# Altium schematic symbol library Relay_SolidState.SchLib: 93 symbols
Pins are listed as number, name and electrical type; pins without a type are passive.

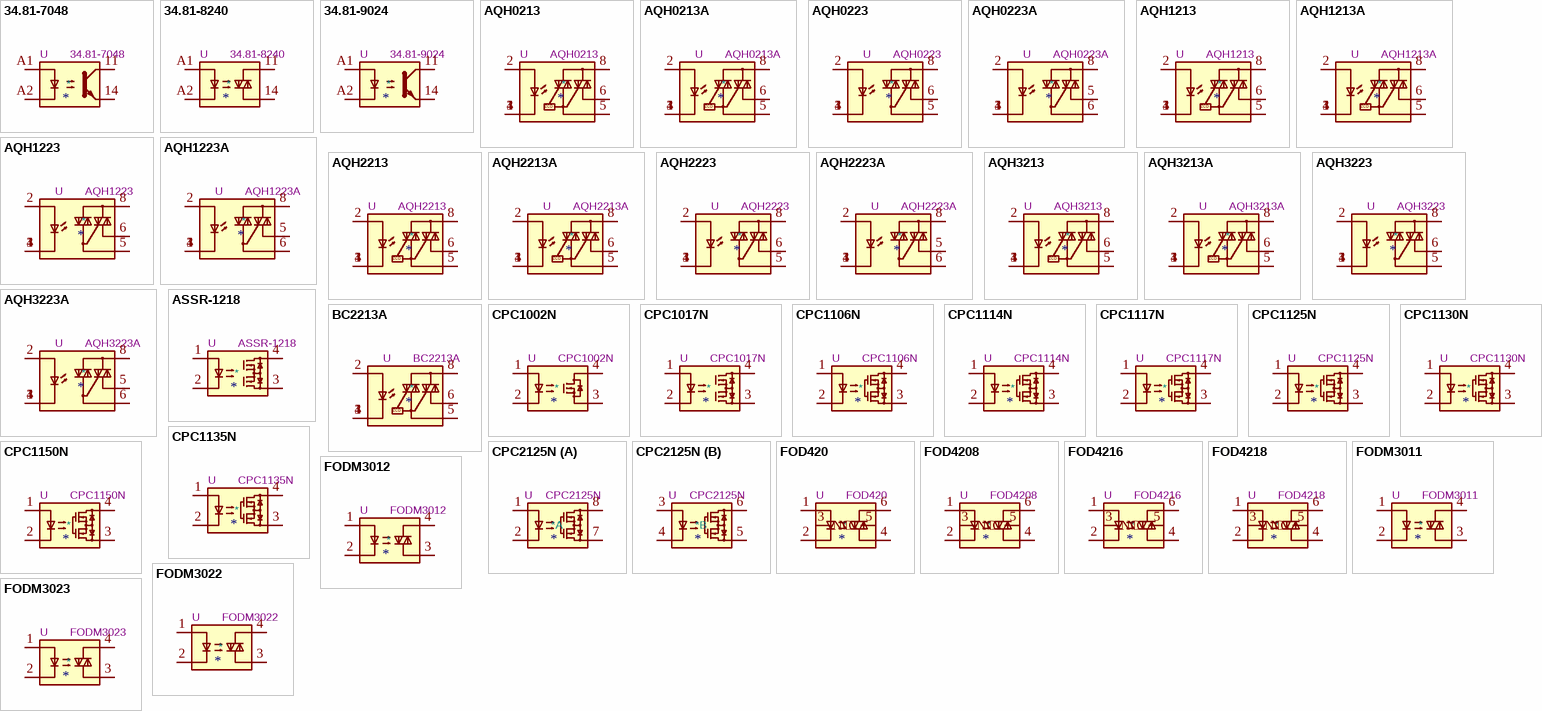
[diagram p0: symbols 34.81-7048 to FODM3023]

## 34.81-7048
designator *  value 34.81-7048  Reference: U
Ultra-Slim Solid-State Relay, 0.1A, 48V DC output switching; ki_keywords: NPN DC Optocoupler; ki_fp_filters: Finder*34.81*; Footprint: OptoDevice:Finder_34.81; Datasheet: http://www.us.liteon.com/downloads/LTV-817-827-847.PDF; Description_: Ultra-Slim Solid-State Relay, 0.1A, 48V DC output switching
pins: 11, 14, A1, A2

## 34.81-8240
designator *  value 34.81-8240  Reference: U
Ultra-slim - Solid State Relay, 2A, 240V AC output, Zero crossing switching; ki_keywords: Photo-Triac Opto Triac; ki_fp_filters: Finder*34.81*; Footprint: OptoDevice:Finder_34.81; Datasheet: https://gfinder.findernet.com/public/attachments/34/EN/S34USAEN.pdf; Description_: Ultra-slim - Solid State Relay, 2A, 240V AC output, Zero crossing switching
pins: 11, 14, A1, A2

## 34.81-9024
designator *  value 34.81-9024  Reference: U
Ultra-Slim Solid-State Relay, 2A, 24V DC output switching; ki_keywords: NPN DC Optocoupler; ki_fp_filters: Finder*34.81*; Footprint: OptoDevice:Finder_34.81; Datasheet: http://www.us.liteon.com/downloads/LTV-817-827-847.PDF; Description_: Ultra-Slim Solid-State Relay, 2A, 24V DC output switching
pins: 11, 14, A1, A2

## AQH0213
designator *  value AQH0213  Reference: U
Zero Cross Opto-Triac, Vdrm 600V, Ift 10mA, IT 300mA, DIP-7; ki_keywords: Opto-Triac Opto Triac Zero Cross Solid State Relays; ki_fp_filters: DIP*N7*W7.62mm*; Footprint: Package_DIP:DIP-8-N7_W7.62mm; Datasheet: https://mediap.industry.panasonic.eu/assets/imported/industrial.panasonic.com/ac/cdn/e/control/relay/solid-state/catalog/semi_eng_aqh.pdf; Description_: Zero Cross Opto-Triac, Vdrm 600V, Ift 10mA, IT 300mA, DIP-7
pins: 1, 2, 3, 4, 5, 6, 8
text: ZCD

## AQH0213A
designator *  value AQH0213A  Reference: U
Zero Cross Opto-Triac, Vdrm 600V, Ift 10mA, IT 300mA, SOIC-7; ki_keywords: Opto-Triac Opto Triac Zero Cross Solid State Relays; ki_fp_filters: SSO*6.4x9.78mm*P2.54mm*; Footprint: Package_SO:SSO-7-8_6.4x9.78mm_P2.54mm; Datasheet: https://mediap.industry.panasonic.eu/assets/imported/industrial.panasonic.com/ac/cdn/e/control/relay/solid-state/catalog/semi_eng_aqh.pdf; Description_: Zero Cross Opto-Triac, Vdrm 600V, Ift 10mA, IT 300mA, SOIC-7
pins: 1, 2, 3, 4, 5, 6, 8
text: ZCD

## AQH0223
designator *  value AQH0223  Reference: U
Random Phase Opto-Triac, Vdrm 600V, Ift 10mA, IT 300mA, DIP-7; ki_keywords: Opto-Triac Opto Triac Random Phase; ki_fp_filters: DIP*N7*W7.62mm*; Footprint: Package_DIP:DIP-8-N7_W7.62mm; Datasheet: https://mediap.industry.panasonic.eu/assets/imported/industrial.panasonic.com/ac/cdn/e/control/relay/solid-state/catalog/semi_eng_aqh.pdf; Description_: Random Phase Opto-Triac, Vdrm 600V, Ift 10mA, IT 300mA, DIP-7
pins: 1, 2, 3, 4, 5, 6, 8

## AQH0223A
designator *  value AQH0223A  Reference: U
Random Phase Opto-Triac, Vdrm 600V, Ift 10mA, IT 300mA, SOIC-7; ki_keywords: Opto-Triac Opto Triac Random Phase; ki_fp_filters: SSO*6.4x9.78mm*P2.54mm*; Footprint: Package_SO:SSO-7-8_6.4x9.78mm_P2.54mm; Datasheet: https://mediap.industry.panasonic.eu/assets/imported/industrial.panasonic.com/ac/cdn/e/control/relay/solid-state/catalog/semi_eng_aqh.pdf; Description_: Random Phase Opto-Triac, Vdrm 600V, Ift 10mA, IT 300mA, SOIC-7
pins: 1, 2, 3, 4, 5, 6, 8

## AQH1213
designator *  value AQH1213  Reference: U
Zero Cross Opto-Triac, Vdrm 600V, Ift 10mA, IT 600mA, DIP-7; ki_keywords: Opto-Triac Opto Triac Zero Cross Solid State Relays; ki_fp_filters: DIP*N7*W7.62mm*; Footprint: Package_DIP:DIP-8-N7_W7.62mm; Datasheet: https://mediap.industry.panasonic.eu/assets/imported/industrial.panasonic.com/ac/cdn/e/control/relay/solid-state/catalog/semi_eng_aqh.pdf; Description_: Zero Cross Opto-Triac, Vdrm 600V, Ift 10mA, IT 600mA, DIP-7
pins: 1, 2, 3, 4, 5, 6, 8
text: ZCD

## AQH1213A
designator *  value AQH1213A  Reference: U
Zero Cross Opto-Triac, Vdrm 600V, Ift 10mA, IT 600mA, SOIC-7; ki_keywords: Opto-Triac Opto Triac Zero Cross Solid State Relays; ki_fp_filters: SSO*6.4x9.78mm*P2.54mm*; Footprint: Package_SO:SSO-7-8_6.4x9.78mm_P2.54mm; Datasheet: https://mediap.industry.panasonic.eu/assets/imported/industrial.panasonic.com/ac/cdn/e/control/relay/solid-state/catalog/semi_eng_aqh.pdf; Description_: Zero Cross Opto-Triac, Vdrm 600V, Ift 10mA, IT 600mA, SOIC-7
pins: 1, 2, 3, 4, 5, 6, 8
text: ZCD

## AQH1223
designator *  value AQH1223  Reference: U
Random Phase Opto-Triac, Vdrm 600V, Ift 10mA, IT 600mA, DIP-7; ki_keywords: Opto-Triac Opto Triac Random Phase; ki_fp_filters: DIP*N7*W7.62mm*; Footprint: Package_DIP:DIP-8-N7_W7.62mm; Datasheet: https://mediap.industry.panasonic.eu/assets/imported/industrial.panasonic.com/ac/cdn/e/control/relay/solid-state/catalog/semi_eng_aqh.pdf; Description_: Random Phase Opto-Triac, Vdrm 600V, Ift 10mA, IT 600mA, DIP-7
pins: 1, 2, 3, 4, 5, 6, 8

## AQH1223A
designator *  value AQH1223A  Reference: U
Random Phase Opto-Triac, Vdrm 600V, Ift 10mA, IT 600mA, SOIC-7; ki_keywords: Opto-Triac Opto Triac Random Phase; ki_fp_filters: SSO*6.4x9.78mm*P2.54mm*; Footprint: Package_SO:SSO-7-8_6.4x9.78mm_P2.54mm; Datasheet: https://mediap.industry.panasonic.eu/assets/imported/industrial.panasonic.com/ac/cdn/e/control/relay/solid-state/catalog/semi_eng_aqh.pdf; Description_: Random Phase Opto-Triac, Vdrm 600V, Ift 10mA, IT 600mA, SOIC-7
pins: 1, 2, 3, 4, 5, 6, 8

## AQH2213
designator *  value AQH2213  Reference: U
Zero Cross Opto-Triac, Vdrm 600V, Ift 10mA, IT 900mA, DIP-7; ki_keywords: Opto-Triac Opto Triac Zero Cross Solid State Relays; ki_fp_filters: DIP*N7*W7.62mm*; Footprint: Package_DIP:DIP-8-N7_W7.62mm; Datasheet: https://mediap.industry.panasonic.eu/assets/imported/industrial.panasonic.com/ac/cdn/e/control/relay/solid-state/catalog/semi_eng_aqh.pdf; Description_: Zero Cross Opto-Triac, Vdrm 600V, Ift 10mA, IT 900mA, DIP-7
pins: 1, 2, 3, 4, 5, 6, 8
text: ZCD

## AQH2213A
designator *  value AQH2213A  Reference: U
Zero Cross Opto-Triac, Vdrm 600V, Ift 10mA, IT 900mA, SOIC-7; ki_keywords: Opto-Triac Opto Triac Zero Cross Solid State Relays; ki_fp_filters: SSO*6.4x9.78mm*P2.54mm*; Footprint: Package_SO:SSO-7-8_6.4x9.78mm_P2.54mm; Datasheet: https://mediap.industry.panasonic.eu/assets/imported/industrial.panasonic.com/ac/cdn/e/control/relay/solid-state/catalog/semi_eng_aqh.pdf; Description_: Zero Cross Opto-Triac, Vdrm 600V, Ift 10mA, IT 900mA, SOIC-7
pins: 1, 2, 3, 4, 5, 6, 8
text: ZCD

## AQH2223
designator *  value AQH2223  Reference: U
Random Phase Opto-Triac, Vdrm 600V, Ift 10mA, IT 900mA, DIP-7; ki_keywords: Opto-Triac Opto Triac Random Phase; ki_fp_filters: DIP*N7*W7.62mm*; Footprint: Package_DIP:DIP-8-N7_W7.62mm; Datasheet: https://mediap.industry.panasonic.eu/assets/imported/industrial.panasonic.com/ac/cdn/e/control/relay/solid-state/catalog/semi_eng_aqh.pdf; Description_: Random Phase Opto-Triac, Vdrm 600V, Ift 10mA, IT 900mA, DIP-7
pins: 1, 2, 3, 4, 5, 6, 8

## AQH2223A
designator *  value AQH2223A  Reference: U
Random Phase Opto-Triac, Vdrm 600V, Ift 10mA, IT 900mA, SOIC-7; ki_keywords: Opto-Triac Opto Triac Random Phase; ki_fp_filters: SSO*6.4x9.78mm*P2.54mm*; Footprint: Package_SO:SSO-7-8_6.4x9.78mm_P2.54mm; Datasheet: https://mediap.industry.panasonic.eu/assets/imported/industrial.panasonic.com/ac/cdn/e/control/relay/solid-state/catalog/semi_eng_aqh.pdf; Description_: Random Phase Opto-Triac, Vdrm 600V, Ift 10mA, IT 900mA, SOIC-7
pins: 1, 2, 3, 4, 5, 6, 8

## AQH3213
designator *  value AQH3213  Reference: U
Zero Cross Opto-Triac, Vdrm 600V, Ift 10mA, IT 1.2A, DIP-7; ki_keywords: Opto-Triac Opto Triac Zero Cross Solid State Relays; ki_fp_filters: DIP*N7*W7.62mm*; Footprint: Package_DIP:DIP-8-N7_W7.62mm; Datasheet: https://mediap.industry.panasonic.eu/assets/imported/industrial.panasonic.com/ac/cdn/e/control/relay/solid-state/catalog/semi_eng_aqh.pdf; Description_: Zero Cross Opto-Triac, Vdrm 600V, Ift 10mA, IT 1.2A, DIP-7
pins: 1, 2, 3, 4, 5, 6, 8
text: ZCD

## AQH3213A
designator *  value AQH3213A  Reference: U
Zero Cross Opto-Triac, Vdrm 600V, Ift 10mA, IT 1.2A, SOIC-7; ki_keywords: Opto-Triac Opto Triac Zero Cross Solid State Relays; ki_fp_filters: SSO*6.4x9.78mm*P2.54mm*; Footprint: Package_SO:SSO-7-8_6.4x9.78mm_P2.54mm; Datasheet: https://mediap.industry.panasonic.eu/assets/imported/industrial.panasonic.com/ac/cdn/e/control/relay/solid-state/catalog/semi_eng_aqh.pdf; Description_: Zero Cross Opto-Triac, Vdrm 600V, Ift 10mA, IT 1.2A, SOIC-7
pins: 1, 2, 3, 4, 5, 6, 8
text: ZCD

## AQH3223
designator *  value AQH3223  Reference: U
Random Phase Opto-Triac, Vdrm 600V, Ift 10mA, IT 1.2A, DIP-7; ki_keywords: Opto-Triac Opto Triac Random Phase; ki_fp_filters: DIP*N7*W7.62mm*; Footprint: Package_DIP:DIP-8-N7_W7.62mm; Datasheet: https://mediap.industry.panasonic.eu/assets/imported/industrial.panasonic.com/ac/cdn/e/control/relay/solid-state/catalog/semi_eng_aqh.pdf; Description_: Random Phase Opto-Triac, Vdrm 600V, Ift 10mA, IT 1.2A, DIP-7
pins: 1, 2, 3, 4, 5, 6, 8

## AQH3223A
designator *  value AQH3223A  Reference: U
Random Phase Opto-Triac, Vdrm 600V, Ift 10mA, IT 1.2A, SOIC-7; ki_keywords: Opto-Triac Opto Triac Random Phase; ki_fp_filters: SSO*6.4x9.78mm*P2.54mm*; Footprint: Package_SO:SSO-7-8_6.4x9.78mm_P2.54mm; Datasheet: https://mediap.industry.panasonic.eu/assets/imported/industrial.panasonic.com/ac/cdn/e/control/relay/solid-state/catalog/semi_eng_aqh.pdf; Description_: Random Phase Opto-Triac, Vdrm 600V, Ift 10mA, IT 1.2A, SOIC-7
pins: 1, 2, 3, 4, 5, 6, 8

## ASSR-1218
designator *  value ASSR-1218  Reference: U
Form A, Solid State Relay (Photo MOSFET) 60V, 0.2A, 10Ohm, SO-4; ki_keywords: MOSFET Output Photorelay 1-Form-A; ki_fp_filters: SO*4.4x4.3mm*P2.54mm*; Footprint: Package_SO:SO-4_4.4x4.3mm_P2.54mm; Datasheet: https://docs.broadcom.com/docs/AV02-0173EN; Description_: Form A, Solid State Relay (Photo MOSFET) 60V, 0.2A, 10Ohm, SO-4
pins: 1, 2, 3, 4

## BC2213A
designator *  value BC2213A  Reference: U
Zero Cross Opto-Triac, Vdrm 600V, Ift 10mA, IT 900mA, SSO-7; ki_keywords: Opto-Triac Opto Triac Zero Cross Solid State Relays; ki_fp_filters: SSO*6.4x9.7mm*P2.54mm*; Footprint: Package_SO:SSO-8-7_6.4x9.7mm_P2.54mm; Datasheet: https://wmsc.lcsc.com/wmsc/upload/file/pdf/v2/lcsc/2312161855_BC-BC2213A_C596512.pdf; Description_: Zero Cross Opto-Triac, Vdrm 600V, Ift 10mA, IT 900mA, SSO-7
pins: 1, 2, 3, 4, 5, 6, 8
text: ZCD

## CPC1002N
designator *  value CPC1002N  Reference: U
Form A, Solid State Relay (Photo MOSFET) 60V, 0.7A, 0.55Ohm, SOP-4; ki_keywords: MOSFET Output Photorelay 1-Form-A; ki_fp_filters: SOP*3.8x4.1mm*P2.54mm*; Footprint: Package_SO:SOP-4_3.8x4.1mm_P2.54mm; Datasheet: http://www.ixysic.com/home/pdfs.nsf/www/CPC1002N.pdf/$file/CPC1002N.pdf; Description_: Form A, Solid State Relay (Photo MOSFET) 60V, 0.7A, 0.55Ohm, SOP-4
pins: 1, 2, 3, 4

## CPC1017N
designator *  value CPC1017N  Reference: U
Form A, Solid State Relay (Photo MOSFET) 60V, 0.1A, 16Ohm, SO-4; ki_keywords: MOSFET Output Photorelay 1-Form-A; ki_fp_filters: SOP*3.8x4.1mm*P2.54mm*; Footprint: Package_SO:SOP-4_3.8x4.1mm_P2.54mm; Datasheet: http://www.ixysic.com/home/pdfs.nsf/www/CPC1017N.pdf/$file/CPC1017N.pdf; Description_: Form A, Solid State Relay (Photo MOSFET) 60V, 0.1A, 16Ohm, SO-4
pins: 1, 2, 3, 4

## CPC1106N
designator *  value CPC1106N  Reference: U
Form B, Solid State Relay (Photo MOSFET) 60V, 0.075A, 10Ohm, AC/DC, SO-4; ki_keywords: MOSFET Output Photorelay 1-Form-B NC; ki_fp_filters: SOP*3.8x4.1mm*P2.54mm*; Footprint: Package_SO:SOP-4_3.8x4.1mm_P2.54mm; Datasheet: https://www.littelfuse.com/assetdocs/littelfuse-integrated-circuits-cpc1106n-datasheet?assetguid=700e8e37-bfc3-4023-a153-1c031d201fce; Description_: Form B, Solid State Relay (Photo MOSFET) 60V, 0.075A, 10Ohm, AC/DC, SO-4
pins: 1, 2, 3, 4

## CPC1114N
designator *  value CPC1114N  Reference: U
Form B, Solid State Relay (Photo MOSFET) 60V, 0.4A, 2Ohm, AC/DC, SO-4; ki_keywords: MOSFET Output Photorelay 1-Form-B NC; ki_fp_filters: SOP*3.8x4.1mm*P2.54mm*; Footprint: Package_SO:SOP-4_3.8x4.1mm_P2.54mm; Datasheet: https://www.littelfuse.com/assetdocs/littelfuse-integrated-circuits-cpc1114n-datasheet?assetguid=dbaad391-0a1b-4914-b92a-7b447aea7fb7; Description_: Form B, Solid State Relay (Photo MOSFET) 60V, 0.4A, 2Ohm, AC/DC, SO-4
pins: 1, 2, 3, 4

## CPC1117N
designator *  value CPC1117N  Reference: U
Form B, Solid State Relay (Photo MOSFET) 60V, 0.15A, AC/DC, 16Ohm, SO-4; ki_keywords: MOSFET Output Photorelay 1-Form-B NC; ki_fp_filters: SOP*3.8x4.1mm*P2.54mm*; Footprint: Package_SO:SOP-4_3.8x4.1mm_P2.54mm; Datasheet: https://www.littelfuse.com/assetdocs/littelfuse-integrated-circuits-cpc1117n-datasheet?assetguid=b6b0537a-0143-41a4-a4c0-1f9a706a4d7a; Description_: Form B, Solid State Relay (Photo MOSFET) 60V, 0.15A, AC/DC, 16Ohm, SO-4
pins: 1, 2, 3, 4

## CPC1125N
designator *  value CPC1125N  Reference: U
Form B, Solid State Relay (Photo MOSFET) 400V, 0.1A, 35Ohm, AC/DC, SO-4; ki_keywords: MOSFET Output Photorelay 1-Form-B NC; ki_fp_filters: SOP*3.8x4.1mm*P2.54mm*; Footprint: Package_SO:SOP-4_3.8x4.1mm_P2.54mm; Datasheet: https://www.littelfuse.com/assetdocs/littelfuse-integrated-circuits-cpc1125n-datasheet?assetguid=3df1af1c-e64d-4dc9-bd80-e20ab839a1e0; Description_: Form B, Solid State Relay (Photo MOSFET) 400V, 0.1A, 35Ohm, AC/DC, SO-4
pins: 1, 2, 3, 4

## CPC1130N
designator *  value CPC1130N  Reference: U
Form B, Solid State Relay (Photo MOSFET) 350V, 0.12A, 30Ohm, AC/DC, SO-4; ki_keywords: MOSFET Output Photorelay 1-Form-B NC; ki_fp_filters: SOP*3.8x4.1mm*P2.54mm*; Footprint: Package_SO:SOP-4_3.8x4.1mm_P2.54mm; Datasheet: https://www.littelfuse.com/assetdocs/littelfuse-integrated-circuits-cpc1130n-datasheet?assetguid=f3fbc846-6487-49f7-a3e5-cf8ba50cc255; Description_: Form B, Solid State Relay (Photo MOSFET) 350V, 0.12A, 30Ohm, AC/DC, SO-4
pins: 1, 2, 3, 4

## CPC1135N
designator *  value CPC1135N  Reference: U
Form B, Solid State Relay (Photo MOSFET) 350V, 0.12A, 35Ohm, AC/DC, SO-4; ki_keywords: MOSFET Output Photorelay 1-Form-B NC; ki_fp_filters: SOP*3.8x4.1mm*P2.54mm*; Footprint: Package_SO:SOP-4_3.8x4.1mm_P2.54mm; Datasheet: https://www.littelfuse.com/assetdocs/littelfuse-integrated-circuits-cpc1135n-datasheet?assetguid=75801530-da77-442e-93b8-e268f3ce6762; Description_: Form B, Solid State Relay (Photo MOSFET) 350V, 0.12A, 35Ohm, AC/DC, SO-4
pins: 1, 2, 3, 4

## CPC1150N
designator *  value CPC1150N  Reference: U
Form B, Solid State Relay (Photo MOSFET) 350V, 0.12A, 50Ohm, AC/DC, SO-4; ki_keywords: MOSFET Output Photorelay 1-Form-B NC; ki_fp_filters: SOP*3.8x4.1mm*P2.54mm*; Footprint: Package_SO:SOP-4_3.8x4.1mm_P2.54mm; Datasheet: https://www.littelfuse.com/assetdocs/littelfuse-integrated-circuits-cpc1150n-datasheet?assetguid=7f3e9a05-5c4a-493e-bfe5-2075df32c7f9; Description_: Form B, Solid State Relay (Photo MOSFET) 350V, 0.12A, 50Ohm, AC/DC, SO-4
pins: 1, 2, 3, 4

## CPC2125N
designator *  value CPC2125N  Reference: U
Dual Form B, Solid State Relay (Photo MOSFET) 400V, 0.1A, 35Ohm, SO-8; ki_keywords: MOSFET Output Photorelay 1-Form-B NC; ki_fp_filters: SOIC*3.81x9.347mm*P2.54mm*; Footprint: Package_SO:SOIC-8_3.81x9.347mm_P2.54mm; Datasheet: https://www.littelfuse.com/assetdocs/littelfuse-integrated-circuits-cpc2125n-datasheet?assetguid=a22cc393-173e-4525-944b-0453a5a13b51; Description_: Dual Form B, Solid State Relay (Photo MOSFET) 400V, 0.1A, 35Ohm, SO-8
part A pins: 1, 2, 7, 8
part B pins: 3, 4, 5, 6

## FOD420
designator *  value FOD420  Reference: U
Random Phase Opto-Triac, Vdrm 600V, Ift 0.75mA, Itm 300mA, DIP6; ki_keywords: Opto-Triac Opto Triac Random Phase; ki_fp_filters: DIP*W7.62mm*; Footprint: Package_DIP:DIP-6_W7.62mm; Datasheet: https://www.onsemi.com/pub/Collateral/FOD4218-D.PDF; Description_: Random Phase Opto-Triac, Vdrm 600V, Ift 0.75mA, Itm 300mA, DIP6
pins: 1, 2, 3 NC, 4, 5 NC, 6

## FOD4208
designator *  value FOD4208  Reference: U
Random Phase Opto-Triac, Vdrm 800V, Ift 0.75mA, Itm 300mA, DIP6; ki_keywords: Opto-Triac Opto Triac Random Phase; ki_fp_filters: DIP*W7.62mm*; Footprint: Package_DIP:DIP-6_W7.62mm; Datasheet: https://www.onsemi.com/pub/Collateral/FOD4218-D.PDF; Description_: Random Phase Opto-Triac, Vdrm 800V, Ift 0.75mA, Itm 300mA, DIP6
pins: 1, 2, 3 NC, 4, 5 NC, 6

## FOD4216
designator *  value FOD4216  Reference: U
Random Phase Opto-Triac, Vdrm 600V, Ift 0.75mA, Itm 300mA, DIP6; ki_keywords: Opto-Triac Opto Triac Random Phase; ki_fp_filters: DIP*W7.62mm*; Footprint: Package_DIP:DIP-6_W7.62mm; Datasheet: https://www.onsemi.com/pub/Collateral/FOD4218-D.PDF; Description_: Random Phase Opto-Triac, Vdrm 600V, Ift 0.75mA, Itm 300mA, DIP6
pins: 1, 2, 3 NC, 4, 5 NC, 6

## FOD4218
designator *  value FOD4218  Reference: U
Random Phase Opto-Triac, Vdrm 800V, Ift 0.75mA, Itm 300mA, DIP6; ki_keywords: Opto-Triac Opto Triac Random Phase; ki_fp_filters: DIP*W7.62mm*; Footprint: Package_DIP:DIP-6_W7.62mm; Datasheet: https://www.onsemi.com/pub/Collateral/FOD4218-D.PDF; Description_: Random Phase Opto-Triac, Vdrm 800V, Ift 0.75mA, Itm 300mA, DIP6
pins: 1, 2, 3 NC, 4, 5 NC, 6

## FODM3011
designator *  value FODM3011  Reference: U
Full Pitch Mini-Flat Random Phase Opto-Triac, Vdrm 250V, Ift 10mA, MFP 4L; ki_keywords: Opto-Triac Opto Triac Random Phase Mini-Flat; ki_fp_filters: SMDIP*W7.62mm*; Footprint: Package_DIP:SMDIP-4_W7.62mm; Datasheet: https://www.onsemi.com/pub/Collateral/FODM3053_NF098-D.PDF; Description_: Full Pitch Mini-Flat Random Phase Opto-Triac, Vdrm 250V, Ift 10mA, MFP 4L
pins: 1, 2, 3, 4

## FODM3012
designator *  value FODM3012  Reference: U
Full Pitch Mini-Flat Random Phase Opto-Triac, Vdrm 250V, Ift 5mA, MFP 4L; ki_keywords: Opto-Triac Opto Triac Random Phase Mini-Flat; ki_fp_filters: SMDIP*W7.62mm*; Footprint: Package_DIP:SMDIP-4_W7.62mm; Datasheet: https://www.onsemi.com/pub/Collateral/FODM3053_NF098-D.PDF; Description_: Full Pitch Mini-Flat Random Phase Opto-Triac, Vdrm 250V, Ift 5mA, MFP 4L
pins: 1, 2, 3, 4

## FODM3022
designator *  value FODM3022  Reference: U
Full Pitch Mini-Flat Random Phase Opto-Triac, Vdrm 400V, Ift 10mA, MFP 4L; ki_keywords: Opto-Triac Opto Triac Random Phase Mini-Flat; ki_fp_filters: SMDIP*W7.62mm*; Footprint: Package_DIP:SMDIP-4_W7.62mm; Datasheet: https://www.onsemi.com/pub/Collateral/FODM3053_NF098-D.PDF; Description_: Full Pitch Mini-Flat Random Phase Opto-Triac, Vdrm 400V, Ift 10mA, MFP 4L
pins: 1, 2, 3, 4

## FODM3023
designator *  value FODM3023  Reference: U
Full Pitch Mini-Flat Random Phase Opto-Triac, Vdrm 400V, Ift 5mA, MFP 4L; ki_keywords: Opto-Triac Opto Triac Random Phase Mini-Flat; ki_fp_filters: SMDIP*W7.62mm*; Footprint: Package_DIP:SMDIP-4_W7.62mm; Datasheet: https://www.onsemi.com/pub/Collateral/FODM3053_NF098-D.PDF; Description_: Full Pitch Mini-Flat Random Phase Opto-Triac, Vdrm 400V, Ift 5mA, MFP 4L
pins: 1, 2, 3, 4

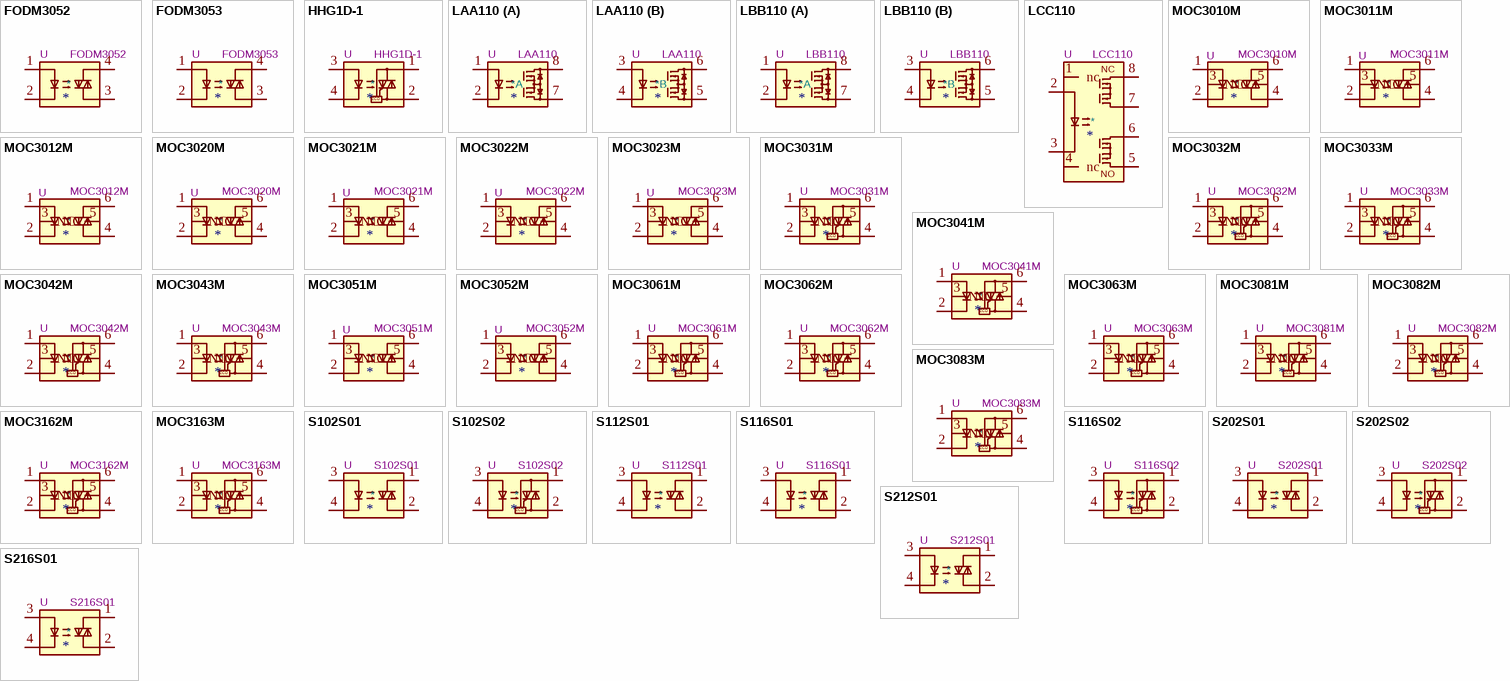
[diagram p1: symbols FODM3052 to S216S01]

## FODM3052
designator *  value FODM3052  Reference: U
Full Pitch Mini-Flat Random Phase Opto-Triac, Vdrm 600V, Ift 10mA, MFP 4L; ki_keywords: Opto-Triac Opto Triac Random Phase Mini-Flat; ki_fp_filters: SMDIP*W7.62mm*; Footprint: Package_DIP:SMDIP-4_W7.62mm; Datasheet: https://www.onsemi.com/pub/Collateral/FODM3053_NF098-D.PDF; Description_: Full Pitch Mini-Flat Random Phase Opto-Triac, Vdrm 600V, Ift 10mA, MFP 4L
pins: 1, 2, 3, 4

## FODM3053
designator *  value FODM3053  Reference: U
Full Pitch Mini-Flat Random Phase Opto-Triac, Vdrm 600V, Ift 5mA, MFP 4L; ki_keywords: Opto-Triac Opto Triac Random Phase Mini-Flat; ki_fp_filters: SMDIP*W7.62mm*; Footprint: Package_DIP:SMDIP-4_W7.62mm; Datasheet: https://www.onsemi.com/pub/Collateral/FODM3053_NF098-D.PDF; Description_: Full Pitch Mini-Flat Random Phase Opto-Triac, Vdrm 600V, Ift 5mA, MFP 4L
pins: 1, 2, 3, 4

## HHG1D-1
designator *  value HHG1D-1  Reference: U
NCR zero cross solid state relay 1A, 2A, 3A, 4A; ki_keywords: ssr; ki_fp_filters: Relay*HHG1D*; Footprint: Relay_THT:Relay_NCR_HHG1D-1; Datasheet: https://ncr.hk/uploads/Relays/Solid_State_Relays/HHG1D-1.pdf; Description_: NCR zero cross solid state relay 1A, 2A, 3A, 4A
pins: 1, 2, 3, 4
text: ZCD

## LAA110
designator *  value LAA110  Reference: U
Dual Single-Pole, Normally Open OptoMOS® Relay, DIP-8; ki_keywords: Dual MOSFET Output Photorelay 1-Form-A; ki_fp_filters: DIP*W7.62mm*; Footprint: Package_DIP:DIP-8_W7.62mm; Datasheet: http://www.clare.com/home/pdfs.nsf/www/LAA110.pdf/$file/LAA110.pdf; Description_: Dual Single-Pole, Normally Open OptoMOS® Relay, DIP-8
part A pins: 1, 2, 7, 8
part B pins: 3, 4, 5, 6

## LBB110
designator *  value LBB110  Reference: U
Dual Single-Pole, Normally Closed OptoMOS® Relay, DIP-8; ki_keywords: Dual MOSFET Output Photorelay 1-Form-B; ki_fp_filters: DIP*W7.62mm*; Footprint: Package_DIP:DIP-8_W7.62mm; Datasheet: http://www.ixysic.com/home/pdfs.nsf/www/LBB110.pdf/$file/LBB110.pdf; Description_: Dual Single-Pole, Normally Closed OptoMOS® Relay, DIP-8
part A pins: 1, 2, 7, 8
part B pins: 3, 4, 5, 6

## LCC110
designator *  value LCC110  Reference: U
1-Form-C OptoMOS® Relay, DIP-8; ki_keywords: MOSFET Output Photorelay 1-Form-C; ki_fp_filters: DIP*W7.62mm*; Footprint: Package_DIP:DIP-8_W7.62mm; Datasheet: http://www.ixysic.com/home/pdfs.nsf/www/LCC110.pdf/$file/LCC110.pdf; Description_: 1-Form-C OptoMOS® Relay, DIP-8
pins: 1 nc, 2, 3, 4 nc, 5, 6, 7, 8
text: NC; NO

## MOC3010M
designator *  value MOC3010M  Reference: U
Random Phase Opto-Triac, Vdrm 250V, Ift 15mA, DIP6; ki_keywords: Opto-Triac Opto Triac Random Phase; ki_fp_filters: DIP*W7.62mm* SMDIP*W9.53mm* DIP*W10.16mm*; Datasheet: https://www.onsemi.com/pub/Collateral/MOC3023M-D.PDF; Description_: Random Phase Opto-Triac, Vdrm 250V, Ift 15mA, DIP6
pins: 1, 2, 3 NC, 4, 5 NC, 6

## MOC3011M
designator *  value MOC3011M  Reference: U
Random Phase Opto-Triac, Vdrm 250V, Ift 10mA, DIP6; ki_keywords: Opto-Triac Opto Triac Random Phase; ki_fp_filters: DIP*W7.62mm* SMDIP*W9.53mm* DIP*W10.16mm*; Datasheet: https://www.onsemi.com/pub/Collateral/MOC3023M-D.PDF; Description_: Random Phase Opto-Triac, Vdrm 250V, Ift 10mA, DIP6
pins: 1, 2, 3 NC, 4, 5 NC, 6

## MOC3012M
designator *  value MOC3012M  Reference: U
Random Phase Opto-Triac, Vdrm 250V, Ift 5mA, DIP6; ki_keywords: Opto-Triac Opto Triac Random Phase; ki_fp_filters: DIP*W7.62mm* SMDIP*W9.53mm* DIP*W10.16mm*; Datasheet: https://www.onsemi.com/pub/Collateral/MOC3023M-D.PDF; Description_: Random Phase Opto-Triac, Vdrm 250V, Ift 5mA, DIP6
pins: 1, 2, 3 NC, 4, 5 NC, 6

## MOC3020M
designator *  value MOC3020M  Reference: U
Random Phase Opto-Triac, Vdrm 400V, Ift 30mA, DIP6; ki_keywords: Opto-Triac Opto Triac Random Phase; ki_fp_filters: DIP*W7.62mm* SMDIP*W9.53mm* DIP*W10.16mm*; Datasheet: https://www.onsemi.com/pub/Collateral/MOC3023M-D.PDF; Description_: Random Phase Opto-Triac, Vdrm 400V, Ift 30mA, DIP6
pins: 1, 2, 3 NC, 4, 5 NC, 6

## MOC3021M
designator *  value MOC3021M  Reference: U
Random Phase Opto-Triac, Vdrm 400V, Ift 15mA, DIP6; ki_keywords: Opto-Triac Opto Triac Random Phase; ki_fp_filters: DIP*W7.62mm* SMDIP*W9.53mm* DIP*W10.16mm*; Datasheet: https://www.onsemi.com/pub/Collateral/MOC3023M-D.PDF; Description_: Random Phase Opto-Triac, Vdrm 400V, Ift 15mA, DIP6
pins: 1, 2, 3 NC, 4, 5 NC, 6

## MOC3022M
designator *  value MOC3022M  Reference: U
Random Phase Opto-Triac, Vdrm 400V, Ift 10mA, DIP6; ki_keywords: Opto-Triac Opto Triac Random Phase; ki_fp_filters: DIP*W7.62mm* SMDIP*W9.53mm* DIP*W10.16mm*; Datasheet: https://www.onsemi.com/pub/Collateral/MOC3023M-D.PDF; Description_: Random Phase Opto-Triac, Vdrm 400V, Ift 10mA, DIP6
pins: 1, 2, 3 NC, 4, 5 NC, 6

## MOC3023M
designator *  value MOC3023M  Reference: U
Random Phase Opto-Triac, Vdrm 400V, Ift 5mA, DIP6; ki_keywords: Opto-Triac Opto Triac Random Phase; ki_fp_filters: DIP*W7.62mm* SMDIP*W9.53mm* DIP*W10.16mm*; Datasheet: https://www.onsemi.com/pub/Collateral/MOC3023M-D.PDF; Description_: Random Phase Opto-Triac, Vdrm 400V, Ift 5mA, DIP6
pins: 1, 2, 3 NC, 4, 5 NC, 6

## MOC3031M
designator *  value MOC3031M  Reference: U
Zero Cross Opto-Triac, Vdrm 250V, Ift 15mA, DIP6; ki_keywords: Opto-Triac Opto Triac Zero Cross; ki_fp_filters: DIP*W7.62mm* SMDIP*W9.53mm* DIP*W10.16mm*; Datasheet: https://www.onsemi.com/pub/Collateral/MOC3043M-D.pdf; Description_: Zero Cross Opto-Triac, Vdrm 250V, Ift 15mA, DIP6
pins: 1, 2, 3 NC, 4, 5 NC, 6
text: ZCD

## MOC3032M
designator *  value MOC3032M  Reference: U
Zero Cross Opto-Triac, Vdrm 250V, Ift 10mA, DIP6; ki_keywords: Opto-Triac Opto Triac Zero Cross; ki_fp_filters: DIP*W7.62mm* SMDIP*W9.53mm* DIP*W10.16mm*; Datasheet: https://www.onsemi.com/pub/Collateral/MOC3043M-D.pdf; Description_: Zero Cross Opto-Triac, Vdrm 250V, Ift 10mA, DIP6
pins: 1, 2, 3 NC, 4, 5 NC, 6
text: ZCD

## MOC3033M
designator *  value MOC3033M  Reference: U
Zero Cross Opto-Triac, Vdrm 250V, Ift 5mA, DIP6; ki_keywords: Opto-Triac Opto Triac Zero Cross; ki_fp_filters: DIP*W7.62mm* SMDIP*W9.53mm* DIP*W10.16mm*; Datasheet: https://www.onsemi.com/pub/Collateral/MOC3043M-D.pdf; Description_: Zero Cross Opto-Triac, Vdrm 250V, Ift 5mA, DIP6
pins: 1, 2, 3 NC, 4, 5 NC, 6
text: ZCD

## MOC3041M
designator *  value MOC3041M  Reference: U
Zero Cross Opto-Triac, Vdrm 400V, Ift 15mA, DIP6; ki_keywords: Opto-Triac Opto Triac Zero Cross; ki_fp_filters: DIP*W7.62mm* SMDIP*W9.53mm* DIP*W10.16mm*; Datasheet: https://www.onsemi.com/pub/Collateral/MOC3043M-D.pdf; Description_: Zero Cross Opto-Triac, Vdrm 400V, Ift 15mA, DIP6
pins: 1, 2, 3 NC, 4, 5 NC, 6
text: ZCD

## MOC3042M
designator *  value MOC3042M  Reference: U
Zero Cross Opto-Triac, Vdrm 400V, Ift 10mA, DIP6; ki_keywords: Opto-Triac Opto Triac Zero Cross; ki_fp_filters: DIP*W7.62mm* SMDIP*W9.53mm* DIP*W10.16mm*; Datasheet: https://www.onsemi.com/pub/Collateral/MOC3043M-D.pdf; Description_: Zero Cross Opto-Triac, Vdrm 400V, Ift 10mA, DIP6
pins: 1, 2, 3 NC, 4, 5 NC, 6
text: ZCD

## MOC3043M
designator *  value MOC3043M  Reference: U
Zero Cross Opto-Triac, Vdrm 400V, Ift 5mA, DIP6; ki_keywords: Opto-Triac Opto Triac Zero Cross; ki_fp_filters: DIP*W7.62mm* SMDIP*W9.53mm* DIP*W10.16mm*; Datasheet: https://www.onsemi.com/pub/Collateral/MOC3043M-D.pdf; Description_: Zero Cross Opto-Triac, Vdrm 400V, Ift 5mA, DIP6
pins: 1, 2, 3 NC, 4, 5 NC, 6
text: ZCD

## MOC3051M
designator *  value MOC3051M  Reference: U
Random Phase Opto-Triac, Vdrm 600V, Ift 15mA, DIP6; ki_keywords: Opto-Triac Opto Triac Random Phase; ki_fp_filters: DIP*W7.62mm* SMDIP*W9.53mm* DIP*W10.16mm*; Datasheet: https://www.onsemi.com/pub/Collateral/MOC3052M-D.PDF; Description_: Random Phase Opto-Triac, Vdrm 600V, Ift 15mA, DIP6
pins: 1, 2, 3 NC, 4, 5 NC, 6

## MOC3052M
designator *  value MOC3052M  Reference: U
Random Phase Opto-Triac, Vdrm 600V, Ift 10mA, DIP6; ki_keywords: Opto-Triac Opto Triac Random Phase; ki_fp_filters: DIP*W7.62mm* SMDIP*W9.53mm* DIP*W10.16mm*; Datasheet: https://www.onsemi.com/pub/Collateral/MOC3052M-D.PDF; Description_: Random Phase Opto-Triac, Vdrm 600V, Ift 10mA, DIP6
pins: 1, 2, 3 NC, 4, 5 NC, 6

## MOC3061M
designator *  value MOC3061M  Reference: U
Zero Cross Opto-Triac, Vdrm 600V, Ift 15mA, DIP6; ki_keywords: Opto-Triac Opto Triac Zero Cross; ki_fp_filters: DIP*W7.62mm* SMDIP*W9.53mm* DIP*W10.16mm*; Datasheet: https://www.onsemi.com/pub/Collateral/MOC3163M-D.pdf; Description_: Zero Cross Opto-Triac, Vdrm 600V, Ift 15mA, DIP6
pins: 1, 2, 3 NC, 4, 5 NC, 6
text: ZCD

## MOC3062M
designator *  value MOC3062M  Reference: U
Zero Cross Opto-Triac, Vdrm 600V, Ift 10mA, DIP6; ki_keywords: Opto-Triac Opto Triac Zero Cross; ki_fp_filters: DIP*W7.62mm* SMDIP*W9.53mm* DIP*W10.16mm*; Datasheet: https://www.onsemi.com/pub/Collateral/MOC3163M-D.pdf; Description_: Zero Cross Opto-Triac, Vdrm 600V, Ift 10mA, DIP6
pins: 1, 2, 3 NC, 4, 5 NC, 6
text: ZCD

## MOC3063M
designator *  value MOC3063M  Reference: U
Zero Cross Opto-Triac, Vdrm 600V, Ift 5mA, DIP6; ki_keywords: Opto-Triac Opto Triac Zero Cross; ki_fp_filters: DIP*W7.62mm* SMDIP*W9.53mm* DIP*W10.16mm*; Datasheet: https://www.onsemi.com/pub/Collateral/MOC3163M-D.pdf; Description_: Zero Cross Opto-Triac, Vdrm 600V, Ift 5mA, DIP6
pins: 1, 2, 3 NC, 4, 5 NC, 6
text: ZCD

## MOC3081M
designator *  value MOC3081M  Reference: U
Zero Cross Opto-Triac, Vdrm 800V, Ift 15mA, DIP6; ki_keywords: Opto-Triac Opto Triac Zero Cross; ki_fp_filters: DIP*W7.62mm* SMDIP*W9.53mm* DIP*W10.16mm*; Datasheet: https://www.onsemi.com/pub/Collateral/MOC3083M-D.PDF; Description_: Zero Cross Opto-Triac, Vdrm 800V, Ift 15mA, DIP6
pins: 1, 2, 3 NC, 4, 5 NC, 6
text: ZCD

## MOC3082M
designator *  value MOC3082M  Reference: U
Zero Cross Opto-Triac, Vdrm 800V, Ift 10mA, DIP6; ki_keywords: Opto-Triac Opto Triac Zero Cross; ki_fp_filters: DIP*W7.62mm* SMDIP*W9.53mm* DIP*W10.16mm*; Datasheet: https://www.onsemi.com/pub/Collateral/MOC3083M-D.PDF; Description_: Zero Cross Opto-Triac, Vdrm 800V, Ift 10mA, DIP6
pins: 1, 2, 3 NC, 4, 5 NC, 6
text: ZCD

## MOC3083M
designator *  value MOC3083M  Reference: U
Zero Cross Opto-Triac, Vdrm 800V, Ift 5mA, DIP6; ki_keywords: Opto-Triac Opto Triac Zero Cross; ki_fp_filters: DIP*W7.62mm* SMDIP*W9.53mm* DIP*W10.16mm*; Datasheet: https://www.onsemi.com/pub/Collateral/MOC3083M-D.PDF; Description_: Zero Cross Opto-Triac, Vdrm 800V, Ift 5mA, DIP6
pins: 1, 2, 3 NC, 4, 5 NC, 6
text: ZCD

## MOC3162M
designator *  value MOC3162M  Reference: U
Zero Cross Opto-Triac, Vdrm 600V, Ift 10mA, dv/dt 1000, DIP6; ki_keywords: Opto-Triac Opto Triac Zero Cross; ki_fp_filters: DIP*W7.62mm* SMDIP*W9.53mm* DIP*W10.16mm*; Datasheet: https://www.onsemi.com/pub/Collateral/MOC3163M-D.pdf; Description_: Zero Cross Opto-Triac, Vdrm 600V, Ift 10mA, dv/dt 1000, DIP6
pins: 1, 2, 3 NC, 4, 5 NC, 6
text: ZCD

## MOC3163M
designator *  value MOC3163M  Reference: U
Zero Cross Opto-Triac, Vdrm 600V, Ift 5mA, dv/dt 1000, DIP6; ki_keywords: Opto-Triac Opto Triac Zero Cross; ki_fp_filters: DIP*W7.62mm* SMDIP*W9.53mm* DIP*W10.16mm*; Datasheet: https://www.onsemi.com/pub/Collateral/MOC3163M-D.pdf; Description_: Zero Cross Opto-Triac, Vdrm 600V, Ift 5mA, dv/dt 1000, DIP6
pins: 1, 2, 3 NC, 4, 5 NC, 6
text: ZCD

## S102S01
designator *  value S102S01  Reference: U
Random Phase Opto-Triac, Vdrm 400V, Ift 8mA, IT 8A; ki_keywords: Opto-Triac Opto Triac Random Phase Solid State Relays; ki_fp_filters: SIP4*Sharp*SSR*P7.62mm*; Footprint: Package_SIP:SIP4_Sharp-SSR_P7.62mm_Straight; Datasheet: http://www.sharp-world.com/products/device/lineup/data/pdf/datasheet/s102s01_e.pdf; Description_: Random Phase Opto-Triac, Vdrm 400V, Ift 8mA, IT 8A
pins: 1, 2, 3, 4

## S102S02
designator *  value S102S02  Reference: U
Zero Cross Opto-Triac, Vdrm 400V, Ift 8mA, IT 8A; ki_keywords: Opto-Triac Opto Triac Zero Cross Solid State Relays; ki_fp_filters: SIP4*Sharp*SSR*P7.62mm*; Footprint: Package_SIP:SIP4_Sharp-SSR_P7.62mm_Straight; Datasheet: http://www.sharp-world.com/products/device/lineup/data/pdf/datasheet/s102s02_e.pdf; Description_: Zero Cross Opto-Triac, Vdrm 400V, Ift 8mA, IT 8A
pins: 1, 2, 3, 4
text: ZCD

## S112S01
designator *  value S112S01  Reference: U
Random Phase Opto-Triac, Vdrm 400V, Ift 8mA, IT 12A; ki_keywords: Opto-Triac Opto Triac Random Phase Solid State Relays; ki_fp_filters: SIP4*Sharp*SSR*P7.62mm*; Footprint: Package_SIP:SIP4_Sharp-SSR_P7.62mm_Straight; Datasheet: http://www.sharp-world.com/products/device/lineup/data/pdf/datasheet/s112s01_e.pdf; Description_: Random Phase Opto-Triac, Vdrm 400V, Ift 8mA, IT 12A
pins: 1, 2, 3, 4

## S116S01
designator *  value S116S01  Reference: U
Random Phase Opto-Triac, Vdrm 400V, Ift 8mA, IT 16A; ki_keywords: Opto-Triac Opto Triac Random Phase Solid State Relays; ki_fp_filters: SIP4*Sharp*SSR*P7.62mm*; Footprint: Package_SIP:SIP4_Sharp-SSR_P7.62mm_Straight; Datasheet: http://www.sharp-world.com/products/device/lineup/data/pdf/datasheet/s116s01_e.pdf; Description_: Random Phase Opto-Triac, Vdrm 400V, Ift 8mA, IT 16A
pins: 1, 2, 3, 4

## S116S02
designator *  value S116S02  Reference: U
Zero Cross Opto-Triac, Vdrm 400V, Ift 8mA, IT 16A; ki_keywords: Opto-Triac Opto Triac Zero Cross Solid State Relays; ki_fp_filters: SIP4*Sharp*SSR*P7.62mm*; Footprint: Package_SIP:SIP4_Sharp-SSR_P7.62mm_Straight; Datasheet: http://www.sharp-world.com/products/device/lineup/data/pdf/datasheet/s116s02_e.pdf; Description_: Zero Cross Opto-Triac, Vdrm 400V, Ift 8mA, IT 16A
pins: 1, 2, 3, 4
text: ZCD

## S202S01
designator *  value S202S01  Reference: U
Random Phase Opto-Triac, Vdrm 600V, Ift 8mA, IT 8A; ki_keywords: Opto-Triac Opto Triac Random Phase Solid State Relays; ki_fp_filters: SIP4*Sharp*SSR*P7.62mm*; Footprint: Package_SIP:SIP4_Sharp-SSR_P7.62mm_Straight; Datasheet: http://www.sharp-world.com/products/device/lineup/data/pdf/datasheet/s102s01_e.pdf; Description_: Random Phase Opto-Triac, Vdrm 600V, Ift 8mA, IT 8A
pins: 1, 2, 3, 4

## S202S02
designator *  value S202S02  Reference: U
Zero Cross Opto-Triac, Vdrm 600V, Ift 8mA, IT 8A; ki_keywords: Opto-Triac Opto Triac Zero Cross Solid State Relays; ki_fp_filters: SIP4*Sharp*SSR*P7.62mm*; Footprint: Package_SIP:SIP4_Sharp-SSR_P7.62mm_Straight; Datasheet: http://www.sharp-world.com/products/device/lineup/data/pdf/datasheet/s102s02_e.pdf; Description_: Zero Cross Opto-Triac, Vdrm 600V, Ift 8mA, IT 8A
pins: 1, 2, 3, 4
text: ZCD

## S212S01
designator *  value S212S01  Reference: U
Random Phase Opto-Triac, Vdrm 600V, Ift 8mA, IT 12A; ki_keywords: Opto-Triac Opto Triac Random Phase Solid State Relays; ki_fp_filters: SIP4*Sharp*SSR*P7.62mm*; Footprint: Package_SIP:SIP4_Sharp-SSR_P7.62mm_Straight; Datasheet: http://www.sharp-world.com/products/device/lineup/data/pdf/datasheet/s112s01_e.pdf; Description_: Random Phase Opto-Triac, Vdrm 600V, Ift 8mA, IT 12A
pins: 1, 2, 3, 4

## S216S01
designator *  value S216S01  Reference: U
Random Phase Opto-Triac, Vdrm 600V, Ift 8mA, IT 16A; ki_keywords: Opto-Triac Opto Triac Random Phase Solid State Relays; ki_fp_filters: SIP4*Sharp*SSR*P7.62mm*; Footprint: Package_SIP:SIP4_Sharp-SSR_P7.62mm_Straight; Datasheet: http://www.sharp-world.com/products/device/lineup/data/pdf/datasheet/s116s01_e.pdf; Description_: Random Phase Opto-Triac, Vdrm 600V, Ift 8mA, IT 16A
pins: 1, 2, 3, 4

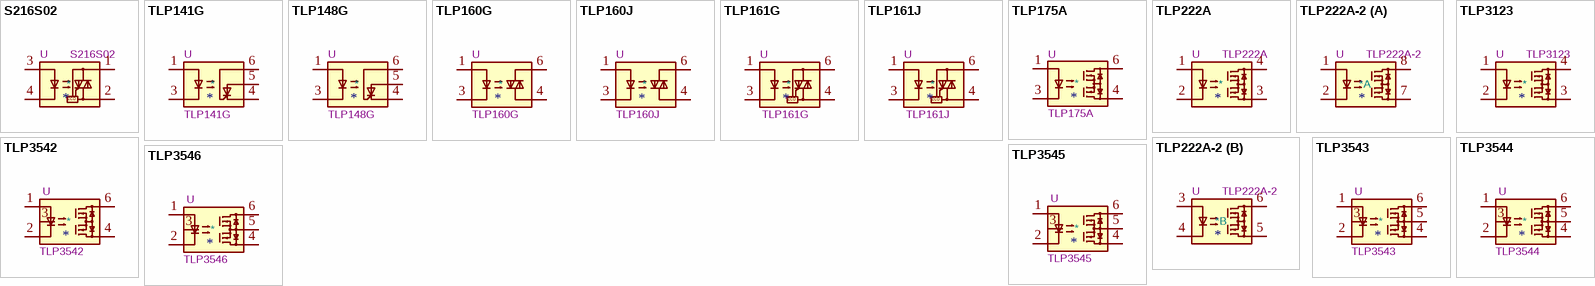
[diagram p2: symbols S216S02 to TLP3546]

## S216S02
designator *  value S216S02  Reference: U
Zero Cross Opto-Triac, Vdrm 600V, Ift 8mA, IT 16A; ki_keywords: Opto-Triac Opto Triac Zero Cross Solid State Relays; ki_fp_filters: SIP4*Sharp*SSR*P7.62mm*; Footprint: Package_SIP:SIP4_Sharp-SSR_P7.62mm_Straight; Datasheet: http://www.sharp-world.com/products/device/lineup/data/pdf/datasheet/s116s02_e.pdf; Description_: Zero Cross Opto-Triac, Vdrm 600V, Ift 8mA, IT 16A
pins: 1, 2, 3, 4
text: ZCD

## TLP141G
designator *  value TLP141G  Reference: U
DC Optocoupler Thyristor Based, Vdrm 400V, It 150mA, Viso 2500V, SOIC-5-6 (MFSOP-5-6); ki_keywords: OptoThyristor DC Optocoupler; ki_fp_filters: Toshiba?SOIC*6?4.4x3.6mm?P1.27mm*; Footprint: Package_SO:Toshiba_SOIC-5-6_4.4x3.6mm_P1.27mm; Datasheet: http://datasheet.octopart.com/TLP141G(U,F)-Toshiba-datasheet-134958.pdf; Description_: DC Optocoupler Thyristor Based, Vdrm 400V, It 150mA, Viso 2500V, SOIC-5-6 (MFSOP-5-6)
pins: 1, 3, 4, 5, 6

## TLP148G
designator *  value TLP148G  Reference: U
DC Optocoupler Thyristor Based, Vdrm 400V, It 150mA, Viso 2500V, SOIC-5-6 (MFSOP-5-6); ki_keywords: OptoThyristor DC Optocoupler; ki_fp_filters: Toshiba?SOIC*6?4.4x3.6mm?P1.27mm*; Footprint: Package_SO:Toshiba_SOIC-5-6_4.4x3.6mm_P1.27mm; Datasheet: https://toshiba.semicon-storage.com/info/docget.jsp?did=1019&prodName=TLP148G; Description_: DC Optocoupler Thyristor Based, Vdrm 400V, It 150mA, Viso 2500V, SOIC-5-6 (MFSOP-5-6)
pins: 1, 3, 4, 5, 6

## TLP160G
designator *  value TLP160G  Reference: U
Random Phase Opto-Triac, Vdrm 400V, Ift 5mA, SOIC-4-6 (MFSOP-4-6); ki_keywords: Opto-Triac Opto Triac Random; ki_fp_filters: Toshiba?SOIC*6?4.4x3.6mm?P1.27mm*; Footprint: Package_SO:Toshiba_SOIC-4-6_4.4x3.6mm_P1.27mm; Datasheet: https://www.mouser.com/datasheet/2/408/TLP160G_datasheet_en_20190610-1134476.pdf; Description_: Random Phase Opto-Triac, Vdrm 400V, Ift 5mA, SOIC-4-6 (MFSOP-4-6)
pins: 1, 3, 4, 6

## TLP160J
designator *  value TLP160J  Reference: U
Random Phase Opto-Triac, Vdrm 600V, Ift 7mA, SOIC-4-6 (MFSOP-4-6); ki_keywords: Opto-Triac Opto Triac Random; ki_fp_filters: Toshiba?SOIC*6?4.4x3.6mm?P1.27mm*; Footprint: Package_SO:Toshiba_SOIC-4-6_4.4x3.6mm_P1.27mm; Datasheet: https://toshiba.semicon-storage.com/info/docget.jsp?did=16919&prodName=TLP160J; Description_: Random Phase Opto-Triac, Vdrm 600V, Ift 7mA, SOIC-4-6 (MFSOP-4-6)
pins: 1, 3, 4, 6

## TLP161G
designator *  value TLP161G  Reference: U
Zero Cross Opto-Triac, Vdrm 400V, Ift 5mA, SOIC-4-6 (MFSOP-4-6); ki_keywords: Opto-Triac Opto Triac Zero Cross; ki_fp_filters: Toshiba?SOIC*6?4.4x3.6mm?P1.27mm*; Footprint: Package_SO:Toshiba_SOIC-4-6_4.4x3.6mm_P1.27mm; Datasheet: https://www.mouser.com/datasheet/2/408/TLP161G_datasheet_en_20190610-1150405.pdf; Description_: Zero Cross Opto-Triac, Vdrm 400V, Ift 5mA, SOIC-4-6 (MFSOP-4-6)
pins: 1, 3, 4, 6
text: ZCD

## TLP161J
designator *  value TLP161J  Reference: U
Zero Cross Opto-Triac, Vdrm 600V, Ift 7mA, SOIC-4-6 (MFSOP-4-6); ki_keywords: Opto-Triac Opto Triac Zero Cross; ki_fp_filters: Toshiba?SOIC*6?4.4x3.6mm?P1.27mm*; Footprint: Package_SO:Toshiba_SOIC-4-6_4.4x3.6mm_P1.27mm; Datasheet: https://www.mouser.com/datasheet/2/408/TLP161J_datasheet_en_20190610-1369330.pdf; Description_: Zero Cross Opto-Triac, Vdrm 600V, Ift 7mA, SOIC-4-6 (MFSOP-4-6)
pins: 1, 3, 4, 6
text: ZCD

## TLP175A
designator *  value TLP175A  Reference: U
MOSFET Photorelay 1-Form-A, Voff 60V, Ion 100mA, SOIC-4-6 (MFSOP-4-6); ki_keywords: MOSFET Output Photorelay 1-Form-A; ki_fp_filters: Toshiba?SOIC*6?4.4x3.6mm?P1.27mm*; Footprint: Package_SO:Toshiba_SOIC-4-6_4.4x3.6mm_P1.27mm; Datasheet: https://toshiba.semicon-storage.com/info/docget.jsp?did=13665&prodName=TLP175A; Description_: MOSFET Photorelay 1-Form-A, Voff 60V, Ion 100mA, SOIC-4-6 (MFSOP-4-6)
pins: 1, 3, 4, 6

## TLP222A
designator *  value TLP222A  Reference: U
MOSFET Photorelay 1-Form-A, Voff 60V, Ion 0,5A, DIP4; ki_keywords: MOSFET Output Photorelay 1-Form-A; ki_fp_filters: DIP*W7.62mm*; Footprint: Package_DIP:DIP-4_W7.62mm; Datasheet: https://toshiba.semicon-storage.com/info/docget.jsp?did=17036&prodName=TLP222A; Description_: MOSFET Photorelay 1-Form-A, Voff 60V, Ion 0,5A, DIP4
pins: 1, 2, 3, 4

## TLP222A-2
designator *  value TLP222A-2  Reference: U
Dual MOSFET Photorelay 1-Form-A, Voff 60V, Ion 0,5A, DIP8; ki_keywords: Dual MOSFET Output Photorelay 1-Form-A; ki_fp_filters: DIP*W7.62mm*; Footprint: Package_DIP:DIP-8_W7.62mm; Datasheet: https://toshiba.semicon-storage.com/info/docget.jsp?did=17036&prodName=TLP222A; Description_: Dual MOSFET Photorelay 1-Form-A, Voff 60V, Ion 0,5A, DIP8
part A pins: 1, 2, 7, 8
part B pins: 3, 4, 5, 6

## TLP3123
designator *  value TLP3123  Reference: U
Solid State Relay (Photo MOSFET) 40V, 1A, 0.1Ohm, SO-4; ki_keywords: MOSFET Output Photorelay 1-Form-A; ki_fp_filters: SO*4.4x3.9mm*P2.54mm*; Footprint: Package_SO:SO-4_4.4x3.9mm_P2.54mm; Datasheet: https://toshiba.semicon-storage.com/info/docget.jsp?did=10047&prodName=TLP3123; Description_: Solid State Relay (Photo MOSFET) 40V, 1A, 0.1Ohm, SO-4
pins: 1, 2, 3, 4

## TLP3542
designator *  value TLP3542  Reference: U
Photo MOSFET optically coupled, ON 4A, 50mohm, OFF state 20V, Isolation 2500 VRMS, DIP-5-6; ki_keywords: photocouplers photorelay solidstate relay normally opened (1-Form-A); ki_fp_filters: DIP*W7.62mm*; Footprint: Package_DIP:DIP-5-6_W7.62mm; Datasheet: https://toshiba.semicon-storage.com/info/docget.jsp?did=1284&prodName=TLP3542; Description_: Photo MOSFET optically coupled, ON 4A, 50mohm, OFF state 20V, Isolation 2500 VRMS, DIP-5-6
pins: 1, 2, 3, 4, 6

## TLP3543
designator *  value TLP3543  Reference: U
Photo MOSFET optically coupled, ON 4A, 50mohm, OFF state 20V, Isolation 2500 VRMS, DIP-6; ki_keywords: photocouplers photorelay solidstate relay normally opened (1-Form-A); ki_fp_filters: DIP*W7.62mm*; Footprint: Package_DIP:DIP-6_W7.62mm; Datasheet: https://toshiba.semicon-storage.com/info/docget.jsp?did=12660&prodName=TLP3543; Description_: Photo MOSFET optically coupled, ON 4A, 50mohm, OFF state 20V, Isolation 2500 VRMS, DIP-6
pins: 1, 2, 3, 4, 5, 6

## TLP3544
designator *  value TLP3544  Reference: U
Photo MOSFET optically coupled, ON 3.5A, 60mohm, OFF state 40V, Isolation 2500 VRMS, DIP-6; ki_keywords: photocouplers photorelay solidstate relay normally opened (1-Form-A); ki_fp_filters: DIP*W7.62mm*; Footprint: Package_DIP:DIP-6_W7.62mm; Datasheet: https://toshiba.semicon-storage.com/info/docget.jsp?did=12661&prodName=TLP3544; Description_: Photo MOSFET optically coupled, ON 3.5A, 60mohm, OFF state 40V, Isolation 2500 VRMS, DIP-6
pins: 1, 2, 3, 4, 5, 6

## TLP3545
designator *  value TLP3545  Reference: U
Photo MOSFET optically coupled, ON 3A, 70mohm, OFF state 60V, Isolation 2500 VRMS, DIP-6; ki_keywords: photocouplers photorelay solidstate relay normally opened (1-Form-A); ki_fp_filters: DIP*W7.62mm*; Footprint: Package_DIP:DIP-6_W7.62mm; Datasheet: https://toshiba.semicon-storage.com/info/docget.jsp?did=12663&prodName=TLP3545; Description_: Photo MOSFET optically coupled, ON 3A, 70mohm, OFF state 60V, Isolation 2500 VRMS, DIP-6
pins: 1, 2, 3, 4, 5, 6

## TLP3546
designator *  value TLP3546  Reference: U
Photo MOSFET optically coupled, ON 2A, 200mohm, OFF state 100V, Isolation 2500 VRMS, DIP-6; ki_keywords: photocouplers photorelay solidstate relay normally opened (1-Form-A); ki_fp_filters: DIP*W7.62mm*; Footprint: Package_DIP:DIP-6_W7.62mm; Datasheet: https://toshiba.semicon-storage.com/info/docget.jsp?did=12671&prodName=TLP3546; Description_: Photo MOSFET optically coupled, ON 2A, 200mohm, OFF state 100V, Isolation 2500 VRMS, DIP-6
pins: 1, 2, 3, 4, 5, 6